# EAGLE library part FPC-SOCKET-0.5-30P (library Connector)
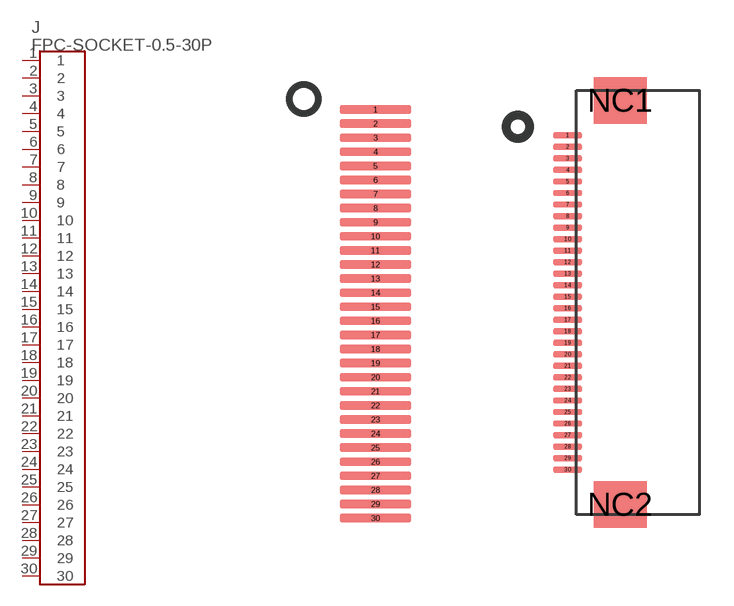
[diagram p3: symbol with the pads of 30P-0.5-PAD; footprints 30P-0.5-PAD, 30P-0.5-90D]

Designator prefix J

## FPC-SOCKET-0.5-30P-PAD  [30P-0.5-PAD]
1  1
2  2
3  3
4  4
5  5
6  6
7  7
8  8
9  9
10  10
11  11
12  12
13  13
14  14
15  15
16  16
17  17
18  18
19  19
20  20
21  21
22  22
23  23
24  24
25  25
26  26
27  27
28  28
29  29
30  30

## FPC-SOCKET-0.5-30P-SOCKET  [30P-0.5-90D]
Pads as for 30P-0.5-PAD

## Footprint 30P-0.5-PAD (pad centres in mm)
smd 2.54 x 0.305: 1 0,7.25; 2 0,6.75; 3 0,6.25; 4 0,5.75; 5 0,5.25; 6 0,4.75; 7 0,4.25; 8 0,3.75; 9 0,3.25; 10 0,2.75; 11 0,2.25; 12 0,1.75; 13 0,1.25; 14 0,0.75; 15 0,0.25; 16 0,-0.25; 17 0,-0.75; 18 0,-1.25; 19 0,-1.75; 20 0,-2.25; 21 0,-2.75; 22 0,-3.25; 23 0,-3.75; 24 0,-4.25; 25 0,-4.75; 26 0,-5.25; 27 0,-5.75; 28 0,-6.25; 29 0,-6.75; 30 0,-7.25

## Footprint 30P-0.5-90D (pad centres in mm)
smd 1.27 x 0.254: 1 -0.381,7.25; 2 -0.381,6.75; 3 -0.381,6.25; 4 -0.381,5.75; 5 -0.381,5.25; 6 -0.381,4.75; 7 -0.381,4.25; 8 -0.381,3.75; 9 -0.381,3.25; 10 -0.381,2.75; 11 -0.381,2.25; 12 -0.381,1.75; 13 -0.381,1.25; 14 -0.381,0.75; 15 -0.381,0.25; 16 -0.381,-0.25; 17 -0.381,-0.75; 18 -0.381,-1.25; 19 -0.381,-1.75; 20 -0.381,-2.25; 21 -0.381,-2.75; 22 -0.381,-3.25; 23 -0.381,-3.75; 24 -0.381,-4.25; 25 -0.381,-4.75; 26 -0.381,-5.25; 27 -0.381,-5.75; 28 -0.381,-6.25; 29 -0.381,-6.75; 30 -0.381,-7.25
smd 2.286 x 2.032: NC1 1.905,8.763; NC2 1.905,-8.763